# EAGLE library part ESP32_LORA_V2.0 (library RRIK)
Check availability <https://pricing.snapeda.com/parts/ESP32%20LoRa%20V2.0/Heltec%20Automation/view-part?ref=eda>
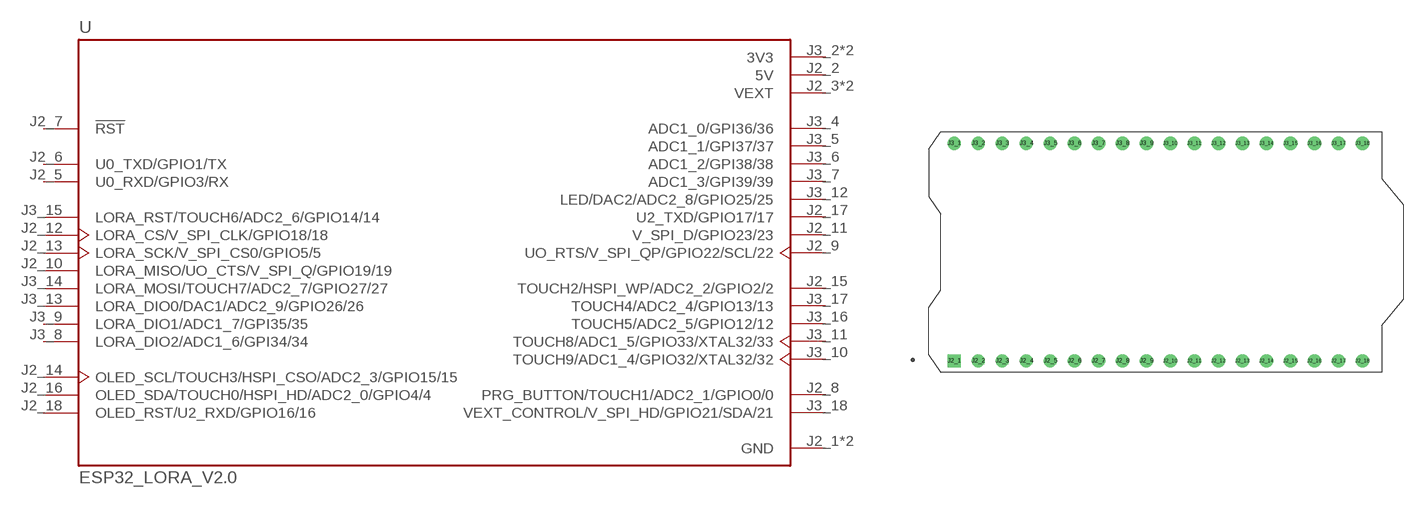
[diagram p4: symbol with the pads of MODULE_ESP32_LORA_V2.0; footprint MODULE_ESP32_LORA_V2.0]

Designator prefix U

## ESP32_LORA_V2.0 (AVAILABILITY: Not in stock; CHECK_PRICES: https://www.snapeda.com/parts/ESP32%20LoRa%20V2.0/Heltec+Automation/view-part/?ref=eda; DESCRIPTION: development board combining an ESP32 microcontroller with a LoRa (Long Range) transceiver module. It is designed for low-power, long-range wireless communication applications, suitable for IoT projects and remote sensor networks; MF: Heltec Automation; MP: ESP32 LoRa V2.0; PACKAGE: Package; PRICE: None; SNAPEDA_LINK: https://www.snapeda.com/parts/ESP32%20LoRa%20V2.0/Heltec+Automation/view-part/?ref=snap)  [MODULE_ESP32_LORA_V2.0]
J2_1  GND  pwr
J2_2  5V  pwr
J2_3  VEXT  pwr
J2_4  VEXT  pwr
J2_5  U0_RXD/GPIO3/RX
J2_6  U0_TXD/GPIO1/TX
J2_7  !RST  in
J2_8  PRG_BUTTON/TOUCH1/ADC2_1/GPIO0/0
J2_9  UO_RTS/V_SPI_QP/GPIO22/SCL/22
J2_10  LORA_MISO/UO_CTS/V_SPI_Q/GPIO19/19
J2_11  V_SPI_D/GPIO23/23
J2_12  LORA_CS/V_SPI_CLK/GPIO18/18
J2_13  LORA_SCK/V_SPI_CS0/GPIO5/5
J2_14  OLED_SCL/TOUCH3/HSPI_CSO/ADC2_3/GPIO15/15
J2_15  TOUCH2/HSPI_WP/ADC2_2/GPIO2/2
J2_16  OLED_SDA/TOUCH0/HSPI_HD/ADC2_0/GPIO4/4
J2_17  U2_TXD/GPIO17/17
J2_18  OLED_RST/U2_RXD/GPIO16/16
J3_1  GND  pwr
J3_2  3V3  pwr
J3_3  3V3  pwr
J3_4  ADC1_0/GPI36/36
J3_5  ADC1_1/GPI37/37
J3_6  ADC1_2/GPI38/38
J3_7  ADC1_3/GPI39/39
J3_8  LORA_DIO2/ADC1_6/GPI34/34
J3_9  LORA_DIO1/ADC1_7/GPI35/35
J3_10  TOUCH9/ADC1_4/GPIO32/XTAL32/32
J3_11  TOUCH8/ADC1_5/GPIO33/XTAL32/33
J3_12  LED/DAC2/ADC2_8/GPIO25/25
J3_13  LORA_DIO0/DAC1/ADC2_9/GPIO26/26
J3_14  LORA_MOSI/TOUCH7/ADC2_7/GPIO27/27
J3_15  LORA_RST/TOUCH6/ADC2_6/GPIO14/14
J3_16  TOUCH5/ADC2_5/GPIO12/12
J3_17  TOUCH4/ADC2_4/GPIO13/13
J3_18  VEXT_CONTROL/V_SPI_HD/GPIO21/SDA/21

## Footprint MODULE_ESP32_LORA_V2.0 (pad centres in mm)
drill 0.9 square: J2_1 -22.38,-11.512
drill 0.9: J2_2 -19.84,-11.512; J2_3 -17.3,-11.512; J2_4 -14.76,-11.512; J2_5 -12.22,-11.512; J2_6 -9.68,-11.512; J2_7 -7.14,-11.512; J2_8 -4.6,-11.512; J2_9 -2.06,-11.512; J2_10 0.48,-11.512; J2_11 3.02,-11.512; J2_12 5.56,-11.512; J2_13 8.1,-11.512; J2_14 10.64,-11.512; J2_15 13.18,-11.512; J2_16 15.72,-11.512; J2_17 18.26,-11.512; J2_18 20.8,-11.512; J3_1 -22.38,11.512; J3_2 -19.84,11.512; J3_3 -17.3,11.512; J3_4 -14.76,11.512; J3_5 -12.22,11.512; J3_6 -9.68,11.512; J3_7 -7.14,11.512; J3_8 -4.6,11.512; J3_9 -2.06,11.512; J3_10 0.48,11.512; J3_11 3.02,11.512; J3_12 5.56,11.512; J3_13 8.1,11.512; J3_14 10.64,11.512; J3_15 13.18,11.512; J3_16 15.72,11.512; J3_17 18.26,11.512; J3_18 20.8,11.512